# Altium schematic symbol library VY2472M41Y5VS63V7.SchLib: 1 symbol
Pins are listed as number, name and electrical type; pins without a type are passive.

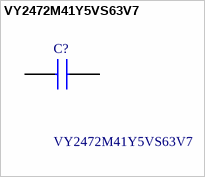
[diagram p0: symbol VY2472M41Y5VS63V7]

## VY2472M41Y5VS63V7
designator C?
VY2 Ceramic Capacitor 4,7NF 20% Y5V; Manufacturer_Name: Vishay; Geometry.Height: 13.5mm; Mouser Part Number: 72-VY2472M41Y5VS63V7; Mouser Price/Stock: https://www.mouser.co.uk/ProductDetail/Vishay-BC-Components/VY2472M41Y5VS63V7?qs=Au78WOuo%252BOfMPadVWrHO1A%3D%3D; Manufacturer_Part_Number: VY2472M41Y5VS63V7; Datasheet Link: https://www.vishay.com/docs/28535/vy2series.pdf
footprint VY2472M41Y5VS63V7
pins: 1, 2